# EAGLE library part IDP_LIBRARY_SN74HC02N (library library)
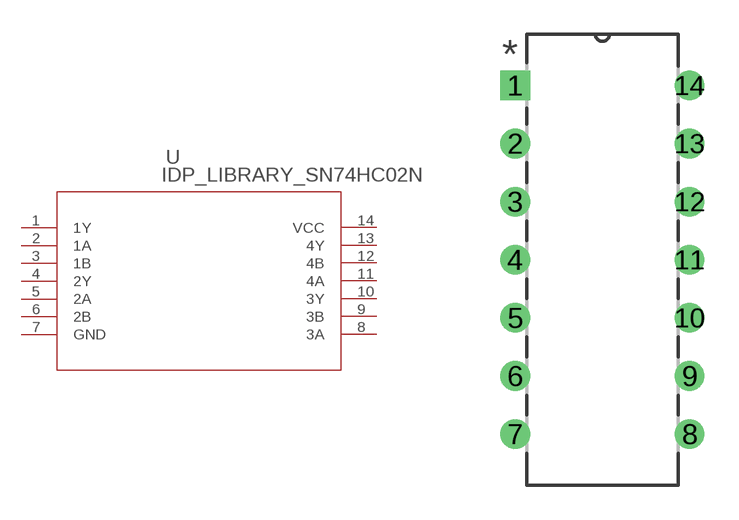
[diagram p1: symbol with the pads of IDP_LIBRARY_N14; footprint IDP_LIBRARY_N14]

Designator prefix U

## IDP_LIBRARY_SN74HC02N (COPYRIGHT: Copyright (C) 2023 Ultra Librarian. All rights reserved.; MANUFACTURER_PART_NUMBER: SN74HC02N; MFR_NAME: Texas Instruments)  [IDP_LIBRARY_N14]
1  1Y  out
2  1A  in
3  1B  in
4  2Y  out
5  2A  in
6  2B  in
7  GND  pwr
8  3A  in
9  3B  in
10  3Y  out
11  4A  in
12  4B  in
13  4Y  out
14  VCC  pwr

## Footprint IDP_LIBRARY_N14 (pad centres in mm)
drill 0.787 pad 1.295 square: 1 -7.62,15.24
drill 0.787 pad 1.295: 2 -7.62,12.7; 3 -7.62,10.16; 4 -7.62,7.62; 5 -7.62,5.08; 6 -7.62,2.54; 7 -7.62,0; 8 0,0; 9 0,2.54; 10 0,5.08; 11 0,7.62; 12 0,10.16; 13 0,12.7; 14 0,15.24